# EAGLE library part MINISD (library JLB6_Connec)
Connecteur MiniSD MOLEX 500525
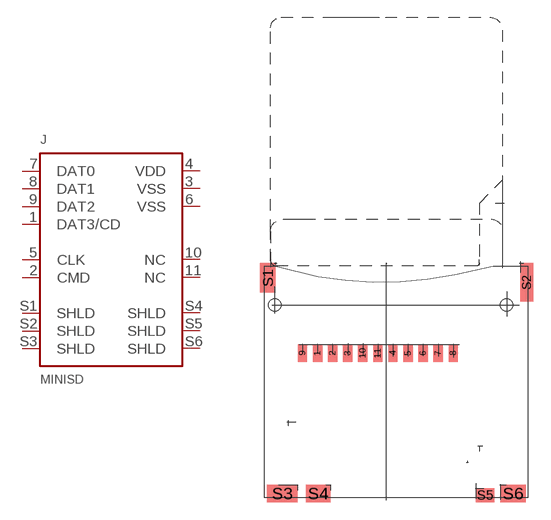
[diagram p19: symbol with the pads of MINISD525; footprint MINISD525]

Designator prefix J

## MINISD  [MINISD525]
1  DAT3/CD
2  CMD
3  VSS  pwr
4  VDD  pwr
5  CLK
6  VSS  pwr
7  DAT0
8  DAT1
9  DAT2
10  NC  pas
11  NC  pas
S1  SHLD  pas
S2  SHLD  pas
S3  SHLD  pas
S4  SHLD  pas
S5  SHLD  pas
S6  SHLD  pas

## Footprint MINISD525 (pad centres in mm)
smd 0.8 x 1.5: 1 -6.78,2.5; 2 -5.48,2.5; 3 -4.18,2.5; 4 -0.28,2.5; 5 1.02,2.5; 6 2.32,2.5; 7 3.62,2.5; 8 4.92,2.5; 9 -8.08,2.5; 10 -2.88,2.5; 11 -1.58,2.5
smd 1.3 x 2.5: S1 -11.08,9
smd 1.1 x 3.3: S2 11.27,8.6
smd 2.6 x 1.5: S3 -9.83,-9.6
smd 2.1 x 1.5: S4 -6.73,-9.6
smd 1.6 x 1.2: S5 7.67,-9.75
smd 2.2 x 1.5: S6 10.07,-9.6
hole 1.067 at -10.48,6.65
hole 1.067 at 9.52,6.65